# Altium footprint library Display.PcbLib: 42 footprints (part 1 of 3)
Each footprint in its own frame and in the unit in brackets; x right, y up, seen from the top. Pads: shape width x height; smd on the part's side, far side on the other; paste and mask are expansions set on the pad; w line width, h text height; cw(c..) or ccw(c..) is an arc to the next point about the centre after c.
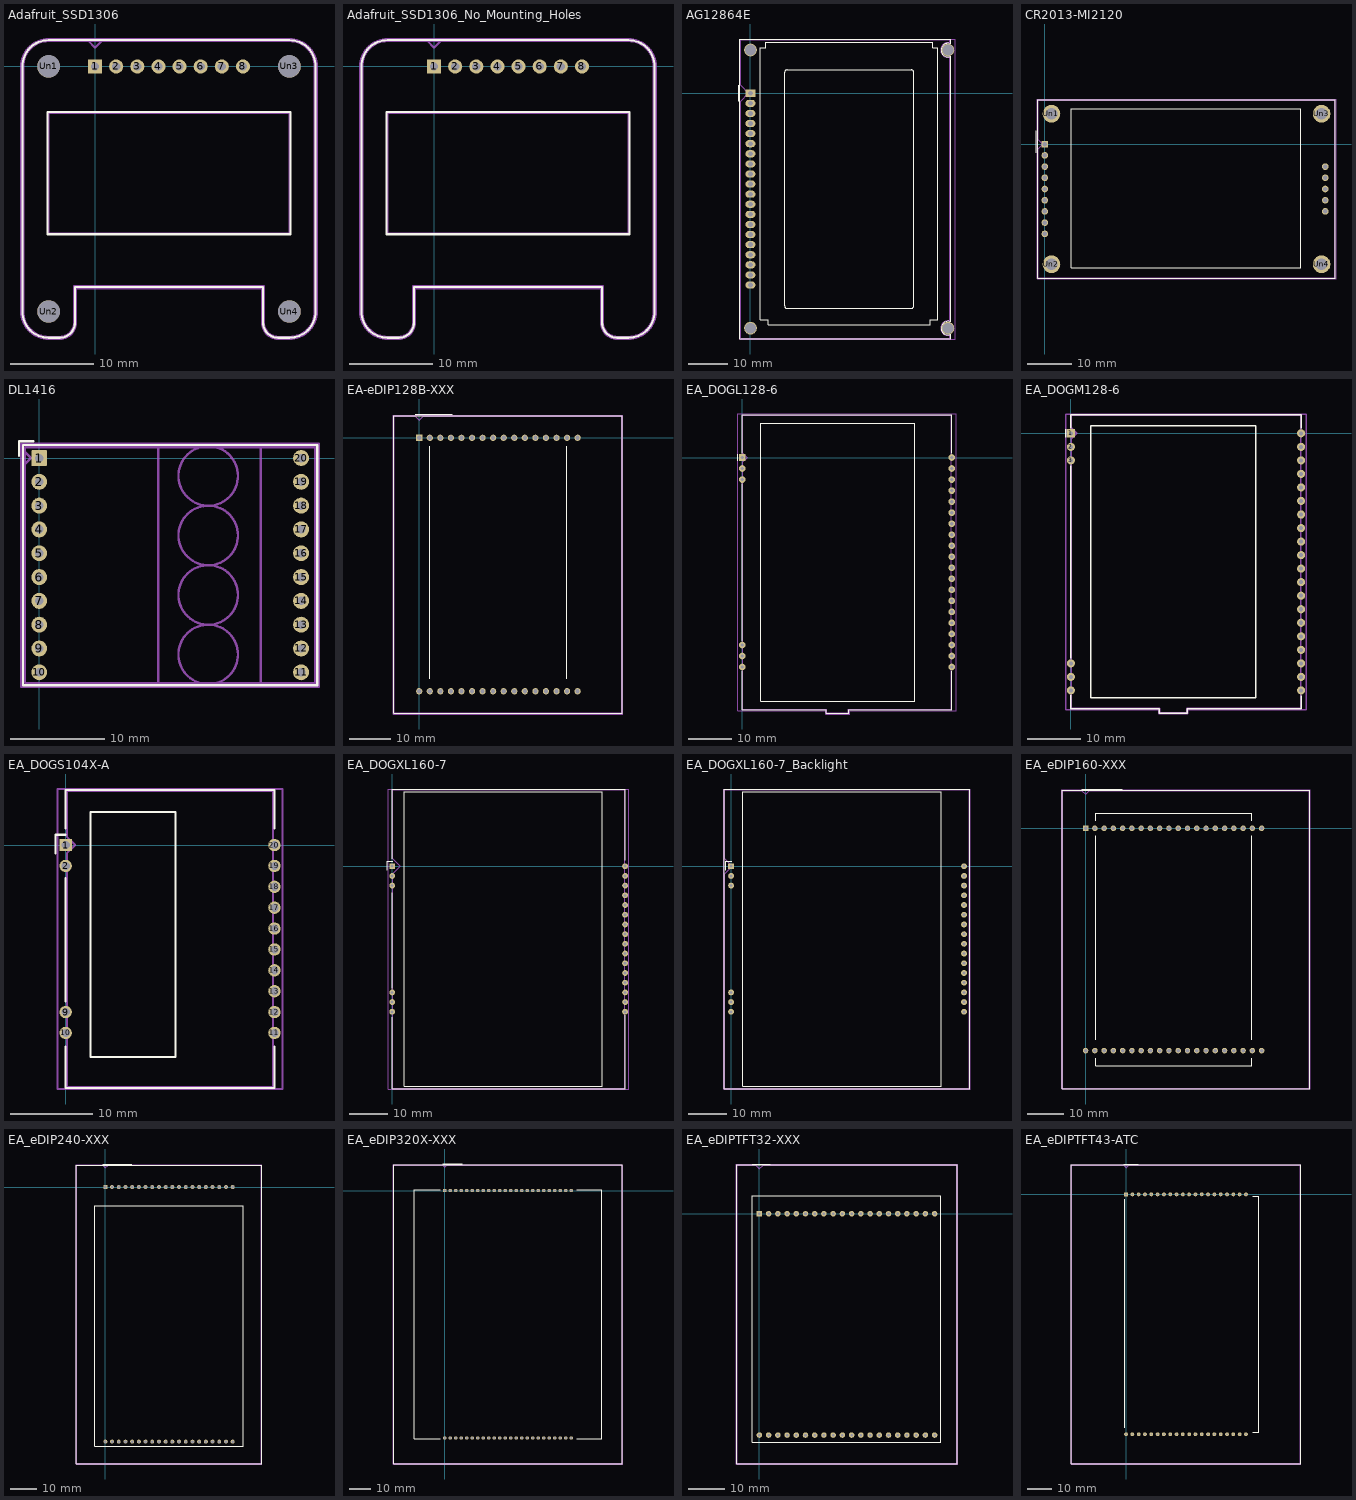
[diagram p0: the footprints below, top view; thin cyan lines are the x and y axes]

## Adafruit_SSD1306 [mm]
pads (12):
  rect 1.7x1.7 hole 1: 1(0,0)
  round 1.7 hole 1: 2(2.54,0) 3(5.08,0) 4(7.62,0) 5(10.16,0) 6(12.7,0) 7(15.24,0) 8(17.78,0)
  round 2.7 hole 2.7: Un1(-5.588,0) Un2(-5.588,-29.464) Un3(23.368,0) Un4(23.368,-29.464)
F.SilkS:
  lines w0.254: -5.59,-32.622 -4.238,-32.622 ; -5.588,-32.622 cw(c-5.588,-29.464) -8.746,-29.464 -8.746,0 cw(c-5.588,0) -5.588,3.158 23.368,3.158 cw(c23.368,0) 26.526,0 26.526,-29.464 cw(c23.368,-29.464) 23.368,-32.622 ; -4.236,-32.622 ccw(c-4.238,-30.814) -2.43,-30.812 ; -2.43,-30.814 -2.43,-26.526 20.21,-26.526 20.21,-30.814 ; 20.21,-30.812 ccw(c22.018,-30.814) 22.016,-32.622 ; 22.018,-32.622 23.37,-32.622 ; -5.698,-20.176 23.478,-20.176 23.478,-5.478 -5.698,-5.478 -5.698,-20.176
Top Component Center:
  lines w0.127: -0.127,0 0.127,0 ; 0,-0.127 0,0.127
Top Assembly:
  lines w0.254: -8.636,-29.464 -8.636,0 ; -8.636,-29.462 ccw(c-5.588,-29.464) -5.59,-32.512 -4.238,-32.512 ; -8.636,-0.002 cw(c-5.588,0) -5.59,3.048 ; -5.588,3.048 23.368,3.048 cw(c23.368,0) 26.416,0 26.416,-29.464 cw(c23.368,-29.464) 23.368,-32.512 ; -4.236,-32.512 ccw(c-4.238,-30.814) -2.54,-30.812 ; -2.54,-30.814 -2.54,-26.416 20.32,-26.416 20.32,-30.814 ; -0.78,3.048 0,2.268 0.78,3.048 ; 20.32,-30.812 ccw(c22.018,-30.814) 22.016,-32.512 ; 22.018,-32.512 23.37,-32.512 ; -5.588,-20.066 23.368,-20.066 23.368,-5.588 -5.588,-5.588 -5.588,-20.066
  text "'.Designator'" at 4.843,-15.572 h1
Top Courtyard:
  lines w0.254: -8.89,-29.47 ccw(c-5.59,-29.47) -5.59,-32.77 -4.24,-32.77 ccw(c-4.24,-30.82) -2.29,-30.82 -2.29,-26.68 20.07,-26.68 20.07,-30.82 ccw(c22.02,-30.82) 22.02,-32.77 23.37,-32.77 ccw(c23.37,-29.47) 26.67,-29.47 26.67,0 ccw(c23.37,0) 23.37,3.3 -5.59,3.3 ccw(c-5.59,0) -8.89,0 -8.89,-29.47
Top Designator:
  text ".Designator" at 1.272,-15.243 h1.52

## Adafruit_SSD1306_No_Mounting_Holes [mm]
pads (8):
  rect 1.7x1.7 hole 1: 1(0,0)
  round 1.7 hole 1: 2(2.54,0) 3(5.08,0) 4(7.62,0) 5(10.16,0) 6(12.7,0) 7(15.24,0) 8(17.78,0)
F.SilkS:
  lines w0.254: -5.59,-32.622 -4.238,-32.622 ; -5.588,-32.622 cw(c-5.588,-29.464) -8.746,-29.464 -8.746,0 cw(c-5.588,0) -5.588,3.158 23.368,3.158 cw(c23.368,0) 26.526,0 26.526,-29.464 cw(c23.368,-29.464) 23.368,-32.622 ; -4.236,-32.622 ccw(c-4.238,-30.814) -2.43,-30.812 ; -2.43,-30.814 -2.43,-26.526 20.21,-26.526 20.21,-30.814 ; 20.21,-30.812 ccw(c22.018,-30.814) 22.016,-32.622 ; 22.018,-32.622 23.37,-32.622 ; -5.698,-20.176 23.478,-20.176 23.478,-5.478 -5.698,-5.478 -5.698,-20.176
Top Assembly:
  lines w0.254: -8.636,-29.464 -8.636,0 ; -8.636,-29.462 ccw(c-5.588,-29.464) -5.59,-32.512 -4.238,-32.512 ; -8.636,-0.002 cw(c-5.588,0) -5.59,3.048 ; -5.588,3.048 23.368,3.048 cw(c23.368,0) 26.416,0 26.416,-29.464 cw(c23.368,-29.464) 23.368,-32.512 ; -4.236,-32.512 ccw(c-4.238,-30.814) -2.54,-30.812 ; -2.54,-30.814 -2.54,-26.416 20.32,-26.416 20.32,-30.814 ; -0.78,3.048 0,2.268 0.78,3.048 ; 20.32,-30.812 ccw(c22.018,-30.814) 22.016,-32.512 ; 22.018,-32.512 23.37,-32.512 ; -5.588,-20.066 23.368,-20.066 23.368,-5.588 -5.588,-5.588 -5.588,-20.066
  text "'.Designator'" at 4.843,-15.572 h1
Top Courtyard:
  lines w0.254: -8.89,-29.47 ccw(c-5.59,-29.47) -5.59,-32.77 -4.24,-32.77 ccw(c-4.24,-30.82) -2.29,-30.82 -2.29,-26.68 20.07,-26.68 20.07,-30.82 ccw(c22.02,-30.82) 22.02,-32.77 23.37,-32.77 ccw(c23.37,-29.47) 26.67,-29.47 26.67,0 ccw(c23.37,0) 23.37,3.3 -5.59,3.3 ccw(c-5.59,0) -8.89,0 -8.89,-29.47
Top Designator:
  text ".Designator" at 1.272,-15.243 h1.52

## AG12864E [mm]
pads (24):
  rect 2.5x1.8 hole 1.2: 1(0,0)
  rrect100% 2.5x1.8 hole 1.2: 2(0,-2.54) 3(0,-5.08) 4(0,-7.62) 5(0,-10.16) 6(0,-12.7) 7(0,-15.24) 8(0,-17.78) 9(0,-20.32) 10(0,-22.86) 11(0,-25.4) 12(0,-27.94) 13(0,-30.48) 14(0,-33.02) 15(0,-35.56) 16(0,-38.1) 17(0,-40.64) 18(0,-43.18) 19(0,-45.72) 20(0,-48.26)
  round 3.2 hole 2.7: Un1(0,10.87) Un2(0,-59.13) Un3(49.7,10.87) Un4(49.7,-59.13)
F.SilkS:
  lines w0.254: -3,-2 -3,2 ; 9.2,5.87 ccw(c9.2,5.27) 8.6,5.27 8.6,-53.53 ccw(c9.2,-53.53) 9.2,-54.13 40.5,-54.13 ccw(c40.5,-53.53) 41.1,-53.53 41.1,5.27 ccw(c40.5,5.27) 40.5,5.87 9.21,5.87 ; 48.12,-59.74 ccw(c49.7,-59.13) 50.31,-60.71 ; 48.12,10.24 ccw(c49.7,10.87) 50.33,9.29 ; 48.12,11.49 cw(c49.7,10.87) 50.32,12.45 ; 48.15,11.56 ccw(c49.7,10.87) 49.01,9.32 ; 49.08,-60.71 cw(c49.7,-59.13) 48.12,-58.51 cw(c49.7,-59.13) 50.32,-57.55 ; 50.35,-60.7 50.35,-61.75 -2.65,-61.75 -2.65,13.55 50.35,13.55 ; 50.35,-57.55 50.35,9.3 ; 50.35,12.44 50.35,13.54 ; 2.5,-57 4.5,-57 4.5,-58.3 45.2,-58.3 45.2,-57 47.2,-57 47.2,11.5 45.9,11.5 45.9,12.8 3.8,12.8 3.8,11.5 2.5,11.5 2.5,-57
Top Assembly:
  lines w0.254: 47.93,-58.63 cw(c49.7,-59.13) 50.2,-57.36 ; 47.93,11.36 cw(c49.73,10.86) 50.23,12.66 ; 49.2,-57.36 ccw(c49.7,-59.13) 47.93,-59.63 ccw(c49.7,-59.13) 50.2,-60.9 50.2,-61.6 -2.5,-61.6 -2.5,-2 -0.5,0 -2.5,2 -2.5,13.4 50.2,13.4 50.2,12.7 ; 49.2,12.65 ccw(c49.7,10.87) 47.92,10.37 ccw(c49.7,10.87) 50.2,9.09 ; 50.2,-57.35 50.2,9.1
  text "'.Designator'" at 16.606,-24.981 h2
Top Courtyard:
  lines w0.254: -2.75,-61.85 51.55,-61.85 51.55,13.65 -2.75,13.65 -2.75,-61.85
Top Designator:
  text ".Designator" at 16.657,-24.608 h1.52

## CR2013-MI2120 [mm]
pads (18):
  rect 1.5x1.5 hole 1: 1(0,0)
  round 1.5 hole 1: 2(0,-2.54) 3(0,-5.08) 4(0,-7.62) 5(0,-10.16) 6(0,-12.7) 7(0,-15.24) 8(0,-17.78) 9(0,-20.32) 10(63.52,-5.08) 11(63.52,-7.62) 12(63.52,-10.16) 13(63.52,-12.7) 14(63.52,-15.24)
  round 4 hole 2.7: Un1(1.5,6.89) Un2(1.5,-27.21) Un3(62.7,6.89) Un4(62.7,-27.21)
F.SilkS:
  lines w0.254: -2,-2 -2,3 ; -1.62,-30.33 65.82,-30.33 65.82,10.01 -1.62,10.01 -1.62,-30.33 ; 6,-28 58,-28 58,8 6,8 6,-28
Top Assembly:
  lines w0.254: -1.5,-30.21 65.7,-30.21 65.7,9.89 -1.5,9.89 -1.5,1 -0.5,0 -1.5,-1 -1.5,-30.21
  text "'.Designator'" at 27.533,-10.39 h1
Top Courtyard:
  lines w0.254: -1.75,-30.46 65.95,-30.46 65.95,10.14 -1.75,10.14 -1.75,-30.46
Top Designator:
  text ".Designator" at 24.357,-10.668 h1.52

## DL1416 [mm]
pads (20):
  rrect15% 1.7x1.7 hole 0.9: 1(0,0)
  round 1.7 hole 0.9: 2(0,-2.54) 3(0,-5.08) 4(0,-7.62) 5(0,-10.16) 6(0,-12.7) 7(0,-15.24) 8(0,-17.78) 9(0,-20.32) 10(0,-22.86) 11(27.94,-22.86) 12(27.94,-20.32) 13(27.94,-17.78) 14(27.94,-15.24) 15(27.94,-12.7) 16(27.94,-10.16) 17(27.94,-7.62) 18(27.94,-5.08) 19(27.94,-2.54) 20(27.94,0)
F.SilkS:
  lines w0.254: -2.159,0.254 -2.159,1.778 -0.635,1.778 ; -1.73,-24.257 29.67,-24.257 29.67,1.397 -1.73,1.397 -1.73,-24.257
Top Assembly:
  circle w0.254: c18.03,-20.955 r3.175
  circle w0.254: c18.03,-14.605 r3.175
  circle w0.254: c18.03,-8.255 r3.175
  circle w0.254: c18.03,-1.907 r3.175
  lines w0.254: -1.524,-0.635 -0.889,0 -1.524,0.635 ; 12.7,-24.003 12.7,1.145 ; 23.622,-24.003 23.622,1.143 ; -1.525,-24.005 29.465,-24.005 29.465,1.145 -1.525,1.145 -1.525,-24.005
  text "'.Designator'" at 9.923,-12.27 h1
Top Courtyard:
  lines w0.254: -1.91,-24.39 29.85,-24.39 29.85,1.53 -1.91,1.53 -1.91,-24.39
Top Designator:
  text ".Designator" at 6.228,-11.814 h1.52

## EA-eDIP128B-XXX [mm]
pads (32):
  rect 1.5x1.5 hole 1: 1(0,0)
  round 1.5 hole 1: 2(2.54,0) 3(5.08,0) 4(7.62,0) 5(10.16,0) 6(12.7,0) 7(15.24,0) 8(17.78,0) 9(20.32,0) 10(22.86,0) 11(25.4,0) 12(27.94,0) 13(30.48,0) 14(33.02,0) 15(35.56,0) 16(38.1,0) 17(38.1,-60.96) 18(35.56,-60.96) 19(33.02,-60.96) 20(30.48,-60.96) 21(27.94,-60.96) 22(25.4,-60.96) 23(22.86,-60.96) 24(20.32,-60.96) 25(17.78,-60.96) 26(15.24,-60.96) 27(12.7,-60.96) 28(10.16,-60.96) 29(7.62,-60.96) 30(5.08,-60.96) 31(2.54,-60.96) 32(0,-60.96)
F.SilkS:
  lines w0.254: -1,5.72 8,5.72 ; 2.58,-58 2.58,-2 ; 35.52,-58 35.52,-2 ; -6.07,-66.3 48.77,-66.3 48.77,5.34 -6.07,5.34 -6.07,-66.3
Top Assembly:
  lines w0.254: -5.95,-66.18 48.65,-66.18 48.65,5.22 1,5.22 0,4.22 -1,5.22 -5.95,5.22 -5.95,-66.18
  text "'.Designator'" at 16.203,-30.09 h1
Top Courtyard:
  lines w0.254: -6.2,-66.43 48.9,-66.43 48.9,5.47 -6.2,5.47 -6.2,-66.43
Top Designator:
  text ".Designator" at 13.732,-30.863 h1.52

## EA_DOGL128-6 [mil]
pads (26):
  rect 60x60 hole 30: 1(0,0)
  round 60 hole 30: 2(0,-100) 3(0,-200) 18(0,-1700) 19(0,-1800) 20(0,-1900) 21(1900,-1900) 22(1900,-1800) 23(1900,-1700) 24(1900,-1600) 25(1900,-1500) 26(1900,-1400) 27(1900,-1300) 28(1900,-1200) 29(1900,-1100) 30(1900,-1000) 31(1900,-900) 32(1900,-800) 33(1900,-700) 34(1900,-600) 35(1900,-500) 36(1900,-400) 37(1900,-300) 38(1900,-200) 39(1900,-100) 40(1900,0)
F.SilkS:
  lines w10: -40.35,-28.74 -40.35,30.32 ; 1.57,-1938.19 1.57,-2288.98 761.81,-2288.98 761.81,-2320.47 967.32,-2320.47 967.32,-2288.98 1898.43,-2288.98 1898.43,-1938.19 ; 1.57,-1662.6 1.57,-237.4 ; 1.57,39.37 1.57,388.98 1898.43,388.98 1898.43,38.19 ; 165.75,-2209.84 1563.39,-2209.84 1563.39,309.84 165.75,309.84 165.75,-2209.84
Top Assembly:
  lines w10: 5.91,-2284.65 766.14,-2284.65 766.14,-2316.14 962.99,-2316.14 962.99,-2284.65 1894.09,-2284.65 1894.09,384.65 5.91,384.65 5.91,39.37 45.28,0 5.91,-39.37 5.91,-2284.65
  text "'.Designator'" at 999.62,-1109.32 h39.37
Top Courtyard:
  lines w10: -40.16,-2294.49 756.3,-2294.49 756.3,-2325.98 972.83,-2325.98 972.83,-2294.49 1940.16,-2294.49 1940.16,394.49 -40.16,394.49 -40.16,-2294.49
Top Designator:
  text ".Designator" at 650,-985.74 h60

## EA_DOGM128-6 [mil]
pads (26):
  rect 60x60 hole 30: 1(0,0)
  round 60 hole 30: 2(0,-100) 3(0,-200) 18(0,-1700) 19(0,-1800) 20(0,-1900) 21(1700,-1900) 22(1700,-1800) 23(1700,-1700) 24(1700,-1600) 25(1700,-1500) 26(1700,-1400) 27(1700,-1300) 28(1700,-1200) 29(1700,-1100) 30(1700,-1000) 31(1700,-900) 32(1700,-800) 33(1700,-700) 34(1700,-600) 35(1700,-500) 36(1700,-400) 37(1700,-300) 38(1700,-200) 39(1700,-100) 40(1700,0)
F.SilkS:
  lines w10: -39.76,-28.74 -39.76,30.32 ; -0.79,-1936.61 -0.79,-2037.01 653.15,-2037.01 653.15,-2068.5 858.66,-2068.5 858.66,-2037.01 1700.79,-2037.01 1700.79,-1938.19 ; -0.79,-1661.81 -0.79,-238.19 ; -0.79,38.19 -0.79,137.01 1700.79,137.01 1700.79,38.58 ; 145.67,-1953.94 1366.14,-1953.94 1366.14,53.94 145.67,53.94 145.67,-1953.94
Top Assembly:
  lines w10: 3.54,-2032.68 657.48,-2032.68 657.48,-2064.17 854.33,-2064.17 854.33,-2032.68 1696.46,-2032.68 1696.46,132.68 3.54,132.68 3.54,39.37 42.91,0 3.54,-39.37 3.54,-2032.68
  text "'.Designator'" at 883.08,-1109.32 h39.37
Top Courtyard:
  lines w10: -40.16,-2042.52 647.64,-2042.52 647.64,-2074.02 864.17,-2074.02 864.17,-2042.52 1740.16,-2042.52 1740.16,142.52 -40.16,142.52 -40.16,-2042.52
Top Designator:
  text ".Designator" at 550.1,-985.74 h60

## EA_DOGS104X-A [mm]
pads (14):
  rect 1.5x1.5 hole 1: 1(0,0)
  round 1.5 hole 1: 2(0,-2.54) 9(0,-20.32) 10(0,-22.86) 11(25.4,-22.86) 12(25.4,-20.32) 13(25.4,-17.78) 14(25.4,-15.24) 15(25.4,-12.7) 16(25.4,-10.16) 17(25.4,-7.62) 18(25.4,-5.08) 19(25.4,-2.54) 20(25.4,0)
F.SilkS:
  lines w0.254: -1.25,-1 -1.25,1.25 0,1.25 ; 0,-24.5 0,-29.55 25.4,-29.55 25.4,-24.5 ; 0,-19 0,-4 ; 0,2 0,6.69 25.4,6.69 25.4,2 ; 3,-25.78 13.39,-25.78 13.39,4 3,4 3,-25.78
Top Assembly:
  lines w0.254: 0.15,-29.43 25.25,-29.43 25.25,6.57 0.15,6.57 0.15,1 1.15,0 0.15,-1 0.15,-29.43
  text "'.Designator'" at 9.563,-12.35 h1
Top Courtyard:
  lines w0.254: -1,-29.68 26.4,-29.68 26.4,6.82 -1,6.82 -1,-29.68
Top Designator:
  text ".Designator" at 4.957,-11.938 h1.52

## EA_DOGXL160-7 [mil]
pads (22):
  rect 60x60 hole 30: 1(0,0)
  round 60 hole 30: 2(0,-100) 3(0,-200) 14(0,-1300) 15(0,-1400) 16(0,-1500) 17(2400,-1500) 18(2400,-1400) 19(2400,-1300) 20(2400,-1200) 21(2400,-1100) 22(2400,-1000) 23(2400,-900) 24(2400,-800) 25(2400,-700) 26(2400,-600) 27(2400,-500) 28(2400,-400) 29(2400,-300) 30(2400,-200) 31(2400,-100) 32(2400,0)
F.SilkS:
  lines w10: -53.15,-39.37 -53.15,53.15 7.87,53.15 ; 0,-1555.12 0,-2290.94 2400,-2290.94 2400,-1536.22 ; 0,-1259.84 0,-275.59 ; 0,78.74 0,790.94 2400,790.94 ; 2400,59.06 2400,790.55 ; 122.05,-2267.72 2165.35,-2267.72 2165.35,767.72 122.05,767.72 122.05,-2267.72
Top Assembly:
  lines w10: 5.91,-2285.43 2394.09,-2285.43 2394.09,785.43 5.91,785.43 5.91,78.74 84.65,0 5.91,-78.74 5.91,-2285.43
  text "'.Designator'" at 1042.65,-831.12 h39.37
Top Courtyard:
  lines w10: -39.76,-2295.28 2439.76,-2295.28 2439.76,795.28 -39.76,795.28 -39.76,-2295.28
Top Designator:
  text ".Designator" at 893.4,-769.99 h60

## EA_DOGXL160-7_Backlight [mil]
pads (22):
  rect 60x60 hole 30: 1(0,0)
  round 60 hole 30: 2(0,-100) 3(0,-200) 14(0,-1300) 15(0,-1400) 16(0,-1500) 17(2400,-1500) 18(2400,-1400) 19(2400,-1300) 20(2400,-1200) 21(2400,-1100) 22(2400,-1000) 23(2400,-900) 24(2400,-800) 25(2400,-700) 26(2400,-600) 27(2400,-500) 28(2400,-400) 29(2400,-300) 30(2400,-200) 31(2400,-100) 32(2400,0)
F.SilkS:
  lines w10: -53.15,-39.37 -53.15,53.15 7.87,53.15 ; -71.65,-2290.94 2459.84,-2290.94 2459.84,790.94 -71.65,790.94 -71.65,-2290.94 ; 122.05,-2267.72 2165.35,-2267.72 2165.35,767.72 122.05,767.72 122.05,-2267.72
Top Assembly:
  lines w10: -65.75,-78.74 -65.75,-2285.43 2453.94,-2285.43 2453.94,785.43 -65.35,785.43 -65.35,78.74 13.39,0 -65.35,-78.74
  text "'.Designator'" at 1042.65,-831.12 h39.37
Top Courtyard:
  lines w10: -75.59,-2295.28 2463.78,-2295.28 2463.78,795.28 -75.59,795.28 -75.59,-2295.28
Top Designator:
  text ".Designator" at 894.19,-769.99 h60

## EA_eDIP160-XXX [mm]
pads (40):
  rect 1.5x1.5 hole 1: 1(0,0)
  round 1.5 hole 1: 2(2.54,0) 3(5.08,0) 4(7.62,0) 5(10.16,0) 6(12.7,0) 7(15.24,0) 8(17.78,0) 9(20.32,0) 10(22.86,0) 11(25.4,0) 12(27.94,0) 13(30.48,0) 14(33.02,0) 15(35.56,0) 16(38.1,0) 17(40.64,0) 18(43.18,0) 19(45.72,0) 20(48.26,0) 21(48.26,-60.96) 22(45.72,-60.96) 23(43.18,-60.96) 24(40.64,-60.96) 25(38.1,-60.96) 26(35.56,-60.96) 27(33.02,-60.96) 28(30.48,-60.96) 29(27.94,-60.96) 30(25.4,-60.96) 31(22.86,-60.96) 32(20.32,-60.96) 33(17.78,-60.96) 34(15.24,-60.96) 35(12.7,-60.96) 36(10.16,-60.96) 37(7.62,-60.96) 38(5.08,-60.96) 39(2.54,-60.96) 40(0,-60.96)
F.SilkS:
  lines w0.254: -1,10.77 10,10.77 ; 2.73,-63 2.73,-65.13 45.53,-65.13 45.53,-63 ; 2.73,-58 2.73,-2 ; 2.73,2 2.73,4.17 45.53,4.17 ; 45.53,-58 45.53,-2 ; 45.53,2 45.53,4.175 ; -6.34,-71.35 61.4,-71.35 61.4,10.39 -6.34,10.39 -6.34,-71.35
Top Assembly:
  lines w0.254: -6.22,-71.23 61.28,-71.23 61.28,10.27 1,10.27 0,9.27 -1,10.27 -6.22,10.27 -6.22,-71.23
  text "'.Designator'" at 21.353,-30.84 h1
Top Courtyard:
  lines w0.254: -6.47,-71.48 61.53,-71.48 61.53,10.52 -6.47,10.52 -6.47,-71.48
Top Designator:
  text ".Designator" at 19.912,-30.863 h1.52

## EA_eDIP240-XXX [mm]
pads (40):
  rect 1.5x1.524 hole 1: 1(0,0)
  round 1.5 hole 1: 2(2.54,0) 3(5.08,0) 4(7.62,0) 5(10.16,0) 6(12.7,0) 7(15.24,0) 8(17.78,0) 9(20.32,0) 10(22.86,0) 11(25.4,0) 12(27.94,0) 13(30.48,0) 14(33.02,0) 15(35.56,0) 16(38.1,0) 17(40.64,0) 18(43.18,0) 19(45.72,0) 20(48.26,0) 21(48.26,-96.52) 22(45.72,-96.52) 23(43.18,-96.52) 24(40.64,-96.52) 25(38.1,-96.52) 26(35.56,-96.52) 27(33.02,-96.52) 28(30.48,-96.52) 29(27.94,-96.52) 30(25.4,-96.52) 31(22.86,-96.52) 32(20.32,-96.52) 33(17.78,-96.52) 34(15.24,-96.52) 35(12.7,-96.52) 36(10.16,-96.52) 37(7.62,-96.52) 38(5.08,-96.52) 39(2.54,-96.52) 40(0,-96.52)
F.SilkS:
  lines w0.254: -1,8.74 10,8.74 ; -11,-104.88 59.25,-104.88 59.25,8.36 -11,8.36 -11,-104.88 ; -4.02,-98.35 52.28,-98.35 52.28,-7.17 -4.02,-7.17 -4.02,-98.35
Top Assembly:
  lines w0.254: -10.87,-104.76 59.13,-104.76 59.13,8.24 1,8.24 0,7.24 -1,8.24 -10.87,8.24 -10.87,-104.76
  text "'.Designator'" at 18.813,-46.56 h1
Top Courtyard:
  lines w0.254: -11.13,-105.01 59.38,-105.01 59.38,8.49 -11.13,8.49 -11.13,-105.01
Top Designator:
  text ".Designator" at 16.507,-48.643 h1.52

## EA_eDIP320X-XXX [mm]
pads (48):
  rect 1.5x1.5 hole 1: 1(0,0)
  round 1.5 hole 1: 2(2.54,0) 3(5.08,0) 4(7.62,0) 5(10.16,0) 6(12.7,0) 7(15.24,0) 8(17.78,0) 9(20.32,0) 10(22.86,0) 11(25.4,0) 12(27.94,0) 13(30.48,0) 14(33.02,0) 15(35.56,0) 16(38.1,0) 17(40.64,0) 18(43.18,0) 19(45.72,0) 20(48.26,0) 21(50.8,0) 22(53.34,0) 23(55.88,0) 24(58.42,0) 25(58.42,-114.3) 26(55.88,-114.3) 27(53.34,-114.3) 28(50.8,-114.3) 29(48.26,-114.3) 30(45.72,-114.3) 31(43.18,-114.3) 32(40.64,-114.3) 33(38.1,-114.3) 34(35.56,-114.3) 35(33.02,-114.3) 36(30.48,-114.3) 37(27.94,-114.3) 38(25.4,-114.3) 39(22.86,-114.3) 40(20.32,-114.3) 41(17.78,-114.3) 42(15.24,-114.3) 43(12.7,-114.3) 44(10.16,-114.3) 45(7.62,-114.3) 46(5.08,-114.3) 47(2.54,-114.3) 48(0,-114.3)
F.SilkS:
  lines w0.254: -2,-114.74 -13.98,-114.74 -13.98,0.44 -2,0.44 ; -1,12.25 8,12.25 ; 61,-114.74 72.4,-114.74 72.4,0.44 61,0.44 ; -23.56,-126.17 81.98,-126.17 81.98,11.87 -23.56,11.87 -23.56,-126.17
Top Assembly:
  lines w0.254: -23.44,-126.05 81.86,-126.05 81.86,11.75 1,11.75 0,10.75 -1,11.75 -23.44,11.75 -23.44,-126.05
  text "'.Designator'" at 28.973,-56.72 h1
Top Courtyard:
  lines w0.254: -23.69,-126.3 82.11,-126.3 82.11,12 -23.69,12 -23.69,-126.3
Top Designator:
  text ".Designator" at 21.592,-57.533 h1.52

## EA_eDIPTFT32-XXX [mil]
pads (40):
  rect 60x60 hole 27.56: 1(0,0)
  round 60 hole 27.56: 2(100,0) 3(200,0) 4(300,0) 5(400,0) 6(500,0) 7(600,0) 8(700,0) 9(800,0) 10(900,0) 11(1000,0) 12(1100,0) 13(1200,0) 14(1300,0) 15(1400,0) 16(1500,0) 17(1600,0) 18(1700,0) 19(1800,0) 20(1900,0) 21(1900,-2400) 22(1800,-2400) 23(1700,-2400) 24(1600,-2400) 25(1500,-2400) 26(1400,-2400) 27(1300,-2400) 28(1200,-2400) 29(1100,-2400) 30(1000,-2400) 31(900,-2400) 32(800,-2400) 33(700,-2400) 34(600,-2400) 35(500,-2400) 36(400,-2400) 37(300,-2400) 38(200,-2400) 39(100,-2400) 40(0,-2400)
F.SilkS:
  lines w10: -78.74,538.98 118.11,538.98 ; -245.67,-2708.66 2145.67,-2708.66 2145.67,529.13 -245.67,529.13 -245.67,-2708.66 ; -78.74,-2480.32 1968.5,-2480.32 1968.5,196.85 -78.74,196.85 -78.74,-2480.32
Top Assembly:
  lines w10: -240.94,-2703.94 2140.94,-2703.94 2140.94,524.41 39.37,524.41 0,485.04 -39.37,524.41 -240.94,524.41 -240.94,-2703.94
  text "'.Designator'" at 805.18,-1159.58 h39.37
Top Courtyard:
  lines w10: -250.79,-2713.78 2150.79,-2713.78 2150.79,534.25 -250.79,534.25 -250.79,-2713.78
Top Designator:
  text ".Designator" at 650.1,-1107.4 h60

## EA_eDIPTFT43-ATC [mil]
pads (40):
  rect 60x60 hole 27.56: 1(0,0)
  round 60 hole 27.56: 2(100,0) 3(200,0) 4(300,0) 5(400,0) 6(500,0) 7(600,0) 8(700,0) 9(800,0) 10(900,0) 11(1000,0) 12(1100,0) 13(1200,0) 14(1300,0) 15(1400,0) 16(1500,0) 17(1600,0) 18(1700,0) 19(1800,0) 20(1900,0) 21(1900,-3800) 22(1800,-3800) 23(1700,-3800) 24(1600,-3800) 25(1500,-3800) 26(1400,-3800) 27(1300,-3800) 28(1200,-3800) 29(1100,-3800) 30(1000,-3800) 31(900,-3800) 32(800,-3800) 33(700,-3800) 34(600,-3800) 35(500,-3800) 36(400,-3800) 37(300,-3800) 38(200,-3800) 39(100,-3800) 40(0,-3800)
F.SilkS:
  lines w10: -39.37,481.89 196.85,481.89 ; -19.68,-3700.79 -19.68,-78.74 ; 2007.87,-3770.87 2100.79,-3770.87 2100.79,-29.13 ; 2007.87,-29.13 2100.39,-29.13 ; -865.75,-4266.93 2765.75,-4266.93 2765.75,466.93 -865.75,466.93 -865.75,-4266.93
Top Assembly:
  lines w10: -861.02,-4262.2 2761.02,-4262.2 2761.02,462.2 39.37,462.2 0,422.83 -39.37,462.2 -861.02,462.2 -861.02,-4262.2
  text "'.Designator'" at 840.68,-1833.08 h39.37
Top Courtyard:
  lines w10: -870.87,-4272.05 2770.87,-4272.05 2770.87,472.05 -870.87,472.05 -870.87,-4272.05
Top Designator:
  text ".Designator" at 650.1,-1915.07 h60